# Altium footprint library Connectors Rectangular 2.54 PL.PcbLib: 14 footprints
Each footprint in its own frame and in the unit in brackets; x right, y up, seen from the top. Pads: shape width x height; smd on the part's side, far side on the other; paste and mask are expansions set on the pad; w line width, h text height; cw(c..) or ccw(c..) is an arc to the next point about the centre after c.
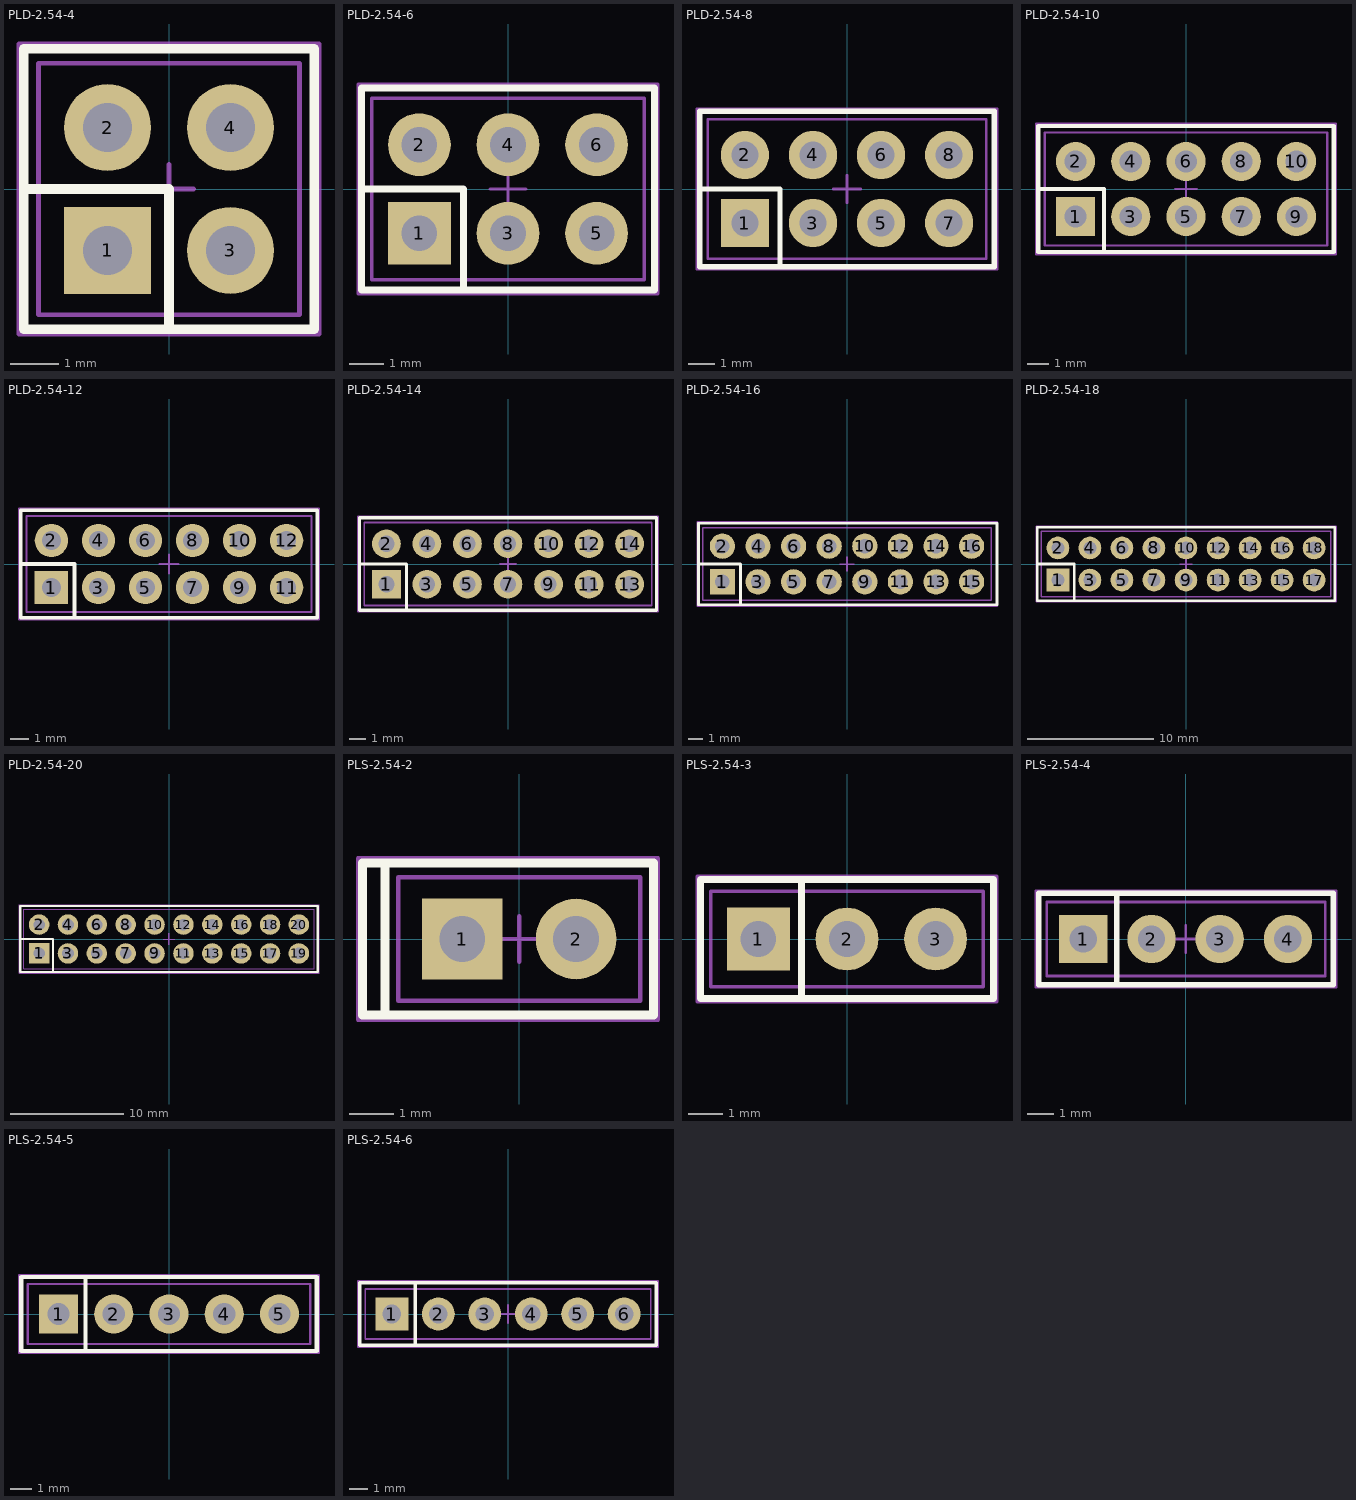
[diagram p0: the footprints below, top view; thin cyan lines are the x and y axes]

## PLD-2.54-4 [mm]
height 8.54
pads (4):
  rect 1.8x1.8 hole 1.02: 1(-1.27,-1.27)
  round 1.8 hole 1.02: 2(-1.27,1.27) 3(1.27,-1.27) 4(1.27,1.27)
Top Overlay:
  lines w0.2: -3,0 0,0 0,-2.9 ; -3,-2.9 -3,2.9 3,2.9 3,-2.9 -3,-2.9
Top Package:
  circle w0.1: c-1.27,1.27 r0.4
  circle w0.1: c-1.27,-1.27 r0.4
  circle w0.1: c1.27,1.27 r0.4
  circle w0.1: c1.27,-1.27 r0.4
  lines w0.1: -2.7,-2.6 -2.7,2.6 2.7,2.6 2.7,-2.6 -2.7,-2.6
Top Comment:
  text ".Comment" at -2.835,3.549 h2
Top Designator:
  text ".Designator" at -4.299,3.617 h2.5
Top Border:
  lines w0.1: -0.5,0 0.5,0 ; 0,-0.5 0,0.5 ; -3.1,-3 3.1,-3 3.1,3 -3.1,3 -3.1,-3 ; -0.508,0 0.508,0 -0.508,0 ; 0,-0.508 0,0.508 0,-0.508
3D body "PL-2x V1.stp": height 9.2, standoff -3.5, extent 0,-2.54 2.54,2.54
3D body "PL-2x V1.stp": height 9.2, standoff -3.5, extent -2.54,-2.54 0,2.54

## PLD-2.54-6 [mm]
height 8.54
pads (6):
  rect 1.8x1.8 hole 1.02: 1(-2.54,-1.27)
  round 1.8 hole 1.02: 2(-2.54,1.27) 3(0,-1.27) 4(0,1.27) 5(2.54,-1.27) 6(2.54,1.27)
Top Overlay:
  lines w0.2: -4.17,0 -1.27,0 -1.27,-2.9 ; -4.2,-2.9 4.2,-2.9 4.2,2.9 -4.2,2.9 -4.2,-2.9
Top Package:
  circle w0.1: c0,-1.27 r0.4
  circle w0.1: c0,1.27 r0.4
  circle w0.1: c-2.54,-1.27 r0.4
  circle w0.1: c-2.54,1.27 r0.4
  circle w0.1: c2.54,1.27 r0.4
  circle w0.1: c2.54,-1.27 r0.4
  lines w0.1: -3.9,-2.6 3.9,-2.6 3.9,2.6 -3.9,2.6 -3.9,-2.6
Top Comment:
  text ".Comment" at -3.546,3.386 h2.5
Top Designator:
  text ".Designator" at -4.299,3.617 h2.5
Top Border:
  lines w0.1: -0.5,0 0.5,0 ; 0,-0.5 0,0.5 ; -4.3,-3 -4.3,3 4.3,3 4.3,-3 -4.3,-3 ; -0.508,0 0.508,0 -0.508,0 ; 0,-0.508 0,0.508 0,-0.508
3D body "PL-2x V1.stp": height 9.2, standoff -3.5, extent -3.81,-2.54 -1.27,2.54
3D body "PL-2x V1.stp": height 9.2, standoff -3.5, extent -1.27,-2.54 1.27,2.54
3D body "PL-2x V1.stp": height 9.2, standoff -3.5, extent 1.27,-2.54 3.81,2.54

## PLD-2.54-8 [mm]
height 8.54
pads (8):
  rect 1.8x1.8 hole 1.02: 1(-3.81,-1.27)
  round 1.8 hole 1.02: 2(-3.81,1.27) 3(-1.27,-1.27) 4(-1.27,1.27) 5(1.27,-1.27) 6(1.27,1.27) 7(3.81,-1.27) 8(3.81,1.27)
Top Overlay:
  lines w0.2: -5.5,0 -2.5,0 -2.5,-2.9 ; -5.5,-2.9 5.5,-2.9 5.5,2.9 -5.5,2.9 -5.5,-2.9
Top Package:
  circle w0.1: c-1.27,1.27 r0.4
  circle w0.1: c-1.27,-1.27 r0.4
  circle w0.1: c1.27,1.27 r0.4
  circle w0.1: c1.27,-1.27 r0.4
  circle w0.1: c-3.81,1.27 r0.4
  circle w0.1: c-3.81,-1.27 r0.4
  circle w0.1: c3.81,1.27 r0.4
  circle w0.1: c3.81,-1.27 r0.4
  lines w0.1: -5.2,-2.6 5.2,-2.6 5.2,2.6 -5.2,2.6 -5.2,-2.6
Top Comment:
  text ".Comment" at -3.546,3.386 h2.5
Top Designator:
  text ".Designator" at -4.299,3.617 h2.5
Top Border:
  lines w0.1: -0.5,0 0.5,0 ; 0,-0.5 0,0.5 ; -5.6,-3 -5.6,3 5.6,3 5.6,-3 -5.6,-3 ; -0.508,0 0.508,0 -0.508,0 ; 0,-0.508 0,0.508 0,-0.508
3D body "PL-2x V1.stp": height 9.2, standoff -3.5, extent 0,-2.54 2.54,2.54
3D body "PL-2x V1.stp": height 9.2, standoff -3.5, extent 2.54,-2.54 5.08,2.54
3D body "PL-2x V1.stp": height 9.2, standoff -3.5, extent -5.08,-2.54 -2.54,2.54
3D body "PL-2x V1.stp": height 9.2, standoff -3.5, extent -2.54,-2.54 0,2.54

## PLD-2.54-10 [mm]
height 8.54
pads (10):
  rect 1.8x1.8 hole 1.02: 1(-5.08,-1.27)
  round 1.8 hole 1.02: 2(-5.08,1.27) 3(-2.54,-1.27) 4(-2.54,1.27) 5(0,-1.27) 6(0,1.27) 7(2.54,-1.27) 8(2.54,1.27) 9(5.08,-1.27) 10(5.08,1.27)
Top Overlay:
  lines w0.2: -6.8,0 -3.77,0 -3.77,-2.9 ; -6.8,-2.9 -6.8,2.9 6.8,2.9 6.8,-2.9 -6.8,-2.9
Top Package:
  circle w0.1: c-5.08,-1.27 r0.4
  circle w0.1: c-5.08,1.27 r0.4
  circle w0.1: c5.08,-1.27 r0.4
  circle w0.1: c5.08,1.27 r0.4
  circle w0.1: c2.54,-1.27 r0.4
  circle w0.1: c2.54,1.27 r0.4
  circle w0.1: c-2.54,1.27 r0.4
  circle w0.1: c-2.54,-1.27 r0.4
  circle w0.1: c0,1.27 r0.4
  circle w0.1: c0,-1.27 r0.4
  lines w0.1: -6.5,-2.6 -6.5,2.6 6.5,2.6 6.5,-2.6 -6.5,-2.6
Top Comment:
  text ".Comment" at -3.546,3.386 h2.5
Top Designator:
  text ".Designator" at -4.299,3.617 h2.5
Top Border:
  lines w0.1: -0.5,0 0.5,0 ; 0,-0.5 0,0.5 ; -6.9,-3 6.9,-3 6.9,3 -6.9,3 -6.9,-3 ; -0.508,0 0.508,0 -0.508,0 ; 0,-0.508 0,0.508 0,-0.508
3D body "PL-2x V1.stp": height 9.2, standoff -3.5, extent 3.81,-2.54 6.35,2.54
3D body "PL-2x V1.stp": height 9.2, standoff -3.5, extent -6.35,-2.54 -3.81,2.54
3D body "PL-2x V1.stp": height 9.2, standoff -3.5, extent 1.27,-2.54 3.81,2.54
3D body "PL-2x V1.stp": height 9.2, standoff -3.5, extent -1.27,-2.54 1.27,2.54
3D body "PL-2x V1.stp": height 9.2, standoff -3.5, extent -3.81,-2.54 -1.27,2.54

## PLD-2.54-12 [mm]
height 8.54
pads (12):
  rect 1.8x1.8 hole 1.02: 1(-6.35,-1.27)
  round 1.8 hole 1.02: 2(-6.35,1.27) 3(-3.81,-1.27) 4(-3.81,1.27) 5(-1.27,-1.27) 6(-1.27,1.27) 7(1.27,-1.27) 8(1.27,1.27) 9(3.81,-1.27) 10(3.81,1.27) 11(6.35,-1.27) 12(6.35,1.27)
Top Overlay:
  lines w0.2: -8,0 -5.1,0 -5.1,-2.9 ; -8,-2.9 8,-2.9 8,2.9 -8,2.9 -8,-2.9
Top Package:
  circle w0.1: c-1.27,1.27 r0.4
  circle w0.1: c-1.27,-1.27 r0.4
  circle w0.1: c1.27,1.27 r0.4
  circle w0.1: c1.27,-1.27 r0.4
  circle w0.1: c3.81,1.27 r0.4
  circle w0.1: c3.81,-1.27 r0.4
  circle w0.1: c6.35,1.27 r0.4
  circle w0.1: c6.35,-1.27 r0.4
  circle w0.1: c-6.35,1.27 r0.4
  circle w0.1: c-6.35,-1.27 r0.4
  circle w0.1: c-3.81,1.27 r0.4
  circle w0.1: c-3.81,-1.27 r0.4
  lines w0.1: -7.7,-2.6 7.7,-2.6 7.7,2.6 -7.7,2.6 -7.7,-2.6
Top Comment:
  text ".Comment" at -3.546,3.386 h2.5
Top Designator:
  text ".Designator" at -4.299,3.617 h2.5
Top Border:
  lines w0.1: -0.5,0 0.5,0 ; 0,-0.5 0,0.5 ; -8.1,-3 -8.1,3 8.1,3 8.1,-3 -8.1,-3 ; -0.508,0 0.508,0 -0.508,0 ; 0,-0.508 0,0.508 0,-0.508
3D body "PL-2x V1.stp": height 9.2, standoff -3.5, extent 0,-2.54 2.54,2.54
3D body "PL-2x V1.stp": height 9.2, standoff -3.5, extent 2.54,-2.54 5.08,2.54
3D body "PL-2x V1.stp": height 9.2, standoff -3.5, extent -5.08,-2.54 -2.54,2.54
3D body "PL-2x V1.stp": height 9.2, standoff -3.5, extent -2.54,-2.54 0,2.54
3D body "PL-2x V1.stp": height 9.2, standoff -3.5, extent -7.62,-2.54 -5.08,2.54
3D body "PL-2x V1.stp": height 9.2, standoff -3.5, extent 5.08,-2.54 7.62,2.54

## PLD-2.54-14 [mm]
height 8.54
pads (14):
  rect 1.8x1.8 hole 1.02: 1(-7.62,-1.27)
  round 1.8 hole 1.02: 2(-7.62,1.27) 3(-5.08,-1.27) 4(-5.08,1.27) 5(-2.54,-1.27) 6(-2.54,1.27) 7(0,-1.27) 8(0,1.27) 9(2.54,-1.27) 10(2.54,1.27) 11(5.08,-1.27) 12(5.08,1.27) 13(7.62,-1.27) 14(7.62,1.27)
Top Overlay:
  lines w0.2: -9.27,0 -6.37,0 -6.37,-2.9 ; -9.3,-2.9 -9.3,2.9 9.3,2.9 9.3,-2.9 -9.3,-2.9
Top Package:
  circle w0.1: c-5.08,-1.27 r0.4
  circle w0.1: c-5.08,1.27 r0.4
  circle w0.1: c-7.62,-1.27 r0.4
  circle w0.1: c-7.62,1.27 r0.4
  circle w0.1: c7.62,-1.27 r0.4
  circle w0.1: c7.62,1.27 r0.4
  circle w0.1: c5.08,-1.27 r0.4
  circle w0.1: c5.08,1.27 r0.4
  circle w0.1: c2.54,-1.27 r0.4
  circle w0.1: c2.54,1.27 r0.4
  circle w0.1: c-2.54,1.27 r0.4
  circle w0.1: c-2.54,-1.27 r0.4
  circle w0.1: c0,1.27 r0.4
  circle w0.1: c0,-1.27 r0.4
  lines w0.1: -9,-2.6 -9,2.6 9,2.6 9,-2.6 -9,-2.6
Top Comment:
  text ".Comment" at -3.546,3.386 h2.5
Top Designator:
  text ".Designator" at -4.299,3.617 h2.5
Top Border:
  lines w0.1: -0.5,0 0.5,0 ; 0,-0.5 0,0.5 ; -9.4,-3 9.4,-3 9.4,3 -9.4,3 -9.4,-3 ; -0.508,0 0.508,0 -0.508,0 ; 0,-0.508 0,0.508 0,-0.508
3D body "PL-2x V1.stp": height 9.2, standoff -3.5, extent 3.81,-2.54 6.35,2.54
3D body "PL-2x V1.stp": height 9.2, standoff -3.5, extent -6.35,-2.54 -3.81,2.54
3D body "PL-2x V1.stp": height 9.2, standoff -3.5, extent 1.27,-2.54 3.81,2.54
3D body "PL-2x V1.stp": height 9.2, standoff -3.5, extent -1.27,-2.54 1.27,2.54
3D body "PL-2x V1.stp": height 9.2, standoff -3.5, extent -3.81,-2.54 -1.27,2.54
3D body "PL-2x V1.stp": height 9.2, standoff -3.5, extent -8.89,-2.54 -6.35,2.54
3D body "PL-2x V1.stp": height 9.2, standoff -3.5, extent 6.35,-2.54 8.89,2.54

## PLD-2.54-16 [mm]
height 8.54
pads (16):
  rect 1.8x1.8 hole 1.02: 1(-8.89,-1.27)
  round 1.8 hole 1.02: 2(-8.89,1.27) 3(-6.35,-1.27) 4(-6.35,1.27) 5(-3.81,-1.27) 6(-3.81,1.27) 7(-1.27,-1.27) 8(-1.27,1.27) 9(1.27,-1.27) 10(1.27,1.27) 11(3.81,-1.27) 12(3.81,1.27) 13(6.35,-1.27) 14(6.35,1.27) 15(8.89,-1.27) 16(8.89,1.27)
Top Overlay:
  lines w0.2: -10.6,0 -7.6,0 -7.6,-2.9 ; -10.6,-2.9 -10.6,2.9 10.7,2.9 10.7,-2.9 -10.6,-2.9
Top Package:
  circle w0.1: c1.27,-1.27 r0.4
  circle w0.1: c1.27,1.27 r0.4
  circle w0.1: c-1.27,-1.27 r0.4
  circle w0.1: c-1.27,1.27 r0.4
  circle w0.1: c3.81,1.27 r0.4
  circle w0.1: c3.81,-1.27 r0.4
  circle w0.1: c6.35,1.27 r0.4
  circle w0.1: c6.35,-1.27 r0.4
  circle w0.1: c-6.35,1.27 r0.4
  circle w0.1: c-6.35,-1.27 r0.4
  circle w0.1: c-3.81,1.27 r0.4
  circle w0.1: c-3.81,-1.27 r0.4
  circle w0.1: c-8.89,1.27 r0.4
  circle w0.1: c-8.89,-1.27 r0.4
  circle w0.1: c8.89,1.27 r0.4
  circle w0.1: c8.89,-1.27 r0.4
  lines w0.1: -10.3,-2.6 -10.3,2.6 10.3,2.6 10.3,-2.6 -10.3,-2.6
Top Comment:
  text ".Comment" at -3.546,3.386 h2.5
Top Designator:
  text ".Designator" at -4.299,3.617 h2.5
Top Border:
  lines w0.1: -0.5,0 0.5,0 ; 0,-0.5 0,0.5 ; -10.7,-3 10.7,-3 10.7,3 -10.7,3 -10.7,-3 ; -0.508,0 0.508,0 -0.508,0 ; 0,-0.508 0,0.508 0,-0.508
3D body "PL-2x V1.stp": height 9.2, standoff -3.5, extent -2.54,-2.54 0,2.54
3D body "PL-2x V1.stp": height 9.2, standoff -3.5, extent -5.08,-2.54 -2.54,2.54
3D body "PL-2x V1.stp": height 9.2, standoff -3.5, extent 2.54,-2.54 5.08,2.54
3D body "PL-2x V1.stp": height 9.2, standoff -3.5, extent 0,-2.54 2.54,2.54
3D body "PL-2x V1.stp": height 9.2, standoff -3.5, extent -7.62,-2.54 -5.08,2.54
3D body "PL-2x V1.stp": height 9.2, standoff -3.5, extent -10.16,-2.54 -7.62,2.54
3D body "PL-2x V1.stp": height 9.2, standoff -3.5, extent 5.08,-2.54 7.62,2.54
3D body "PL-2x V1.stp": height 9.2, standoff -3.5, extent 7.62,-2.54 10.16,2.54

## PLD-2.54-18 [mm]
height 8.54
pads (18):
  rect 1.8x1.8 hole 1.02: 1(-10.16,-1.27)
  round 1.8 hole 1.02: 2(-10.16,1.27) 3(-7.62,-1.27) 4(-7.62,1.27) 5(-5.08,-1.27) 6(-5.08,1.27) 7(-2.54,-1.27) 8(-2.54,1.27) 9(0,-1.27) 10(0,1.27) 11(2.54,-1.27) 12(2.54,1.27) 13(5.08,-1.27) 14(5.08,1.27) 15(7.62,-1.27) 16(7.62,1.27) 17(10.16,-1.27) 18(10.16,1.27)
Top Overlay:
  lines w0.2: -11.77,0 -8.87,0 -8.87,-2.9 ; -11.8,-2.9 11.8,-2.9 11.8,2.9 -11.8,2.9 -11.8,-2.9
Top Package:
  circle w0.1: c-7.62,-1.27 r0.4
  circle w0.1: c-7.62,1.27 r0.4
  circle w0.1: c-10.16,-1.27 r0.4
  circle w0.1: c-10.16,1.27 r0.4
  circle w0.1: c-5.08,1.27 r0.4
  circle w0.1: c-5.08,-1.27 r0.4
  circle w0.1: c7.62,-1.27 r0.4
  circle w0.1: c7.62,1.27 r0.4
  circle w0.1: c5.08,-1.27 r0.4
  circle w0.1: c5.08,1.27 r0.4
  circle w0.1: c10.16,1.27 r0.4
  circle w0.1: c10.16,-1.27 r0.4
  circle w0.1: c0,-1.27 r0.4
  circle w0.1: c0,1.27 r0.4
  circle w0.1: c-2.54,-1.27 r0.4
  circle w0.1: c-2.54,1.27 r0.4
  circle w0.1: c2.54,1.27 r0.4
  circle w0.1: c2.54,-1.27 r0.4
  lines w0.1: -11.5,-2.6 11.5,-2.6 11.5,2.6 -11.5,2.6 -11.5,-2.6
Top Comment:
  text ".Comment" at -3.546,3.386 h2.5
Top Designator:
  text ".Designator" at -4.299,3.617 h2.5
Top Border:
  lines w0.1: -0.5,0 0.5,0 ; 0,-0.5 0,0.5 ; -11.9,-3 -11.9,3 11.9,3 11.9,-3 -11.9,-3 ; -0.508,0 0.508,0 -0.508,0 ; 0,-0.508 0,0.508 0,-0.508
3D body "PL-2x V1.stp": height 9.2, standoff -3.5, extent -3.81,-2.54 -1.27,2.54
3D body "PL-2x V1.stp": height 9.2, standoff -3.5, extent -1.27,-2.54 1.27,2.54
3D body "PL-2x V1.stp": height 9.2, standoff -3.5, extent 1.27,-2.54 3.81,2.54
3D body "PL-2x V1.stp": height 9.2, standoff -3.5, extent -6.35,-2.54 -3.81,2.54
3D body "PL-2x V1.stp": height 9.2, standoff -3.5, extent 3.81,-2.54 6.35,2.54
3D body "PL-2x V1.stp": height 9.2, standoff -3.5, extent 6.35,-2.54 8.89,2.54
3D body "PL-2x V1.stp": height 9.2, standoff -3.5, extent 8.89,-2.54 11.43,2.54
3D body "PL-2x V1.stp": height 9.2, standoff -3.5, extent -11.43,-2.54 -8.89,2.54
3D body "PL-2x V1.stp": height 9.2, standoff -3.5, extent -8.89,-2.54 -6.35,2.54

## PLD-2.54-20 [mm]
height 8.54
pads (20):
  rect 1.8x1.8 hole 1.02: 1(-11.43,-1.27)
  round 1.8 hole 1.02: 2(-11.43,1.27) 3(-8.89,-1.27) 4(-8.89,1.27) 5(-6.35,-1.27) 6(-6.35,1.27) 7(-3.81,-1.27) 8(-3.81,1.27) 9(-1.27,-1.27) 10(-1.27,1.27) 11(1.27,-1.27) 12(1.27,1.27) 13(3.81,-1.27) 14(3.81,1.27) 15(6.35,-1.27) 16(6.35,1.27) 17(8.89,-1.27) 18(8.89,1.27) 19(11.43,-1.27) 20(11.43,1.27)
Top Overlay:
  lines w0.2: -13.1,0 -10.2,0 -10.2,-2.9 ; -13.1,-2.9 -13.1,2.9 13.1,2.9 13.1,-2.9 -13.1,-2.9
Top Package:
  circle w0.1: c-3.81,-1.27 r0.4
  circle w0.1: c-3.81,1.27 r0.4
  circle w0.1: c3.81,-1.27 r0.4
  circle w0.1: c3.81,1.27 r0.4
  circle w0.1: c8.89,-1.27 r0.4
  circle w0.1: c8.89,1.27 r0.4
  circle w0.1: c6.35,-1.27 r0.4
  circle w0.1: c6.35,1.27 r0.4
  circle w0.1: c11.43,1.27 r0.4
  circle w0.1: c11.43,-1.27 r0.4
  circle w0.1: c-8.89,-1.27 r0.4
  circle w0.1: c-8.89,1.27 r0.4
  circle w0.1: c-11.43,-1.27 r0.4
  circle w0.1: c-11.43,1.27 r0.4
  circle w0.1: c-6.35,1.27 r0.4
  circle w0.1: c-6.35,-1.27 r0.4
  circle w0.1: c1.27,-1.27 r0.4
  circle w0.1: c1.27,1.27 r0.4
  circle w0.1: c-1.27,-1.27 r0.4
  circle w0.1: c-1.27,1.27 r0.4
  lines w0.1: -12.8,-2.6 -12.8,2.6 12.8,2.6 12.8,-2.6 -12.8,-2.6
Top Comment:
  text ".Comment" at -3.546,3.386 h2.5
Top Designator:
  text ".Designator" at -4.299,3.617 h2.5
Top Border:
  lines w0.1: -0.5,0 0.5,0 ; 0,-0.5 0,0.5 ; -13.2,-3 13.2,-3 13.2,3 -13.2,3 -13.2,-3 ; -0.508,0 0.508,0 -0.508,0 ; 0,-0.508 0,0.508 0,-0.508
3D body "PL-2x V1.stp": height 9.2, standoff -3.5, extent 7.62,-2.54 10.16,2.54
3D body "PL-2x V1.stp": height 9.2, standoff -3.5, extent 5.08,-2.54 7.62,2.54
3D body "PL-2x V1.stp": height 9.2, standoff -3.5, extent 10.16,-2.54 12.7,2.54
3D body "PL-2x V1.stp": height 9.2, standoff -3.5, extent -10.16,-2.54 -7.62,2.54
3D body "PL-2x V1.stp": height 9.2, standoff -3.5, extent -12.7,-2.54 -10.16,2.54
3D body "PL-2x V1.stp": height 9.2, standoff -3.5, extent -7.62,-2.54 -5.08,2.54
3D body "PL-2x V1.stp": height 9.2, standoff -3.5, extent -2.54,-2.54 0,2.54
3D body "PL-2x V1.stp": height 9.2, standoff -3.5, extent -5.08,-2.54 -2.54,2.54
3D body "PL-2x V1.stp": height 9.2, standoff -3.5, extent 2.54,-2.54 5.08,2.54
3D body "PL-2x V1.stp": height 9.2, standoff -3.5, extent 0,-2.54 2.54,2.54

## PLS-2.54-2 [mm]
height 8.54
pads (2):
  rect 1.8x1.8 hole 1.02: 1(-1.27,0)
  round 1.8 hole 1.02: 2(1.27,0)
Top Overlay:
  lines w0.2: -3,-1.7 -3,1.7 ; -3.5,-1.7 -3.5,1.7 3,1.7 3,-1.7 -3.5,-1.7
Top Package:
  circle w0.1: c1.27,0 r0.4
  circle w0.1: c-1.27,0 r0.4
  lines w0.1: -2.7,-1.375 -2.7,1.375 2.7,1.375 2.7,-1.375 -2.7,-1.375
Top Comment:
  text ".Comment" at -2.835,2.349 h2
Top Designator:
  text ".Designator" at -4.299,2.417 h2.5
Top Border:
  lines w0.1: -0.5,0 0.5,0 ; 0,-0.5 0,0.5 ; -3.6,-1.8 3.1,-1.8 3.1,1.8 -3.6,1.8 -3.6,-1.8 ; -0.508,0 0.508,0 -0.508,0 ; 0,-0.508 0,0.508 0,-0.508
3D body "PL-1x V1.stp": height 9.2, standoff -3.5, extent 0,-1.27 2.54,1.27
3D body "PL-1x V1.stp": height 9.2, standoff -3.5, extent -2.54,-1.27 0,1.27

## PLS-2.54-3 [mm]
height 8.54
pads (3):
  rect 1.8x1.8 hole 1.02: 1(-2.54,0)
  round 1.8 hole 1.02: 2(0,0) 3(2.54,0)
Top Overlay:
  lines w0.2: -1.3,-1.7 -1.3,1.7 ; -4.2,-1.7 -4.2,1.7 4.2,1.7 4.2,-1.7 -4.2,-1.7
Top Package:
  circle w0.1: c0,0 r0.4
  circle w0.1: c-2.54,0 r0.4
  circle w0.1: c2.54,0 r0.4
  lines w0.1: -3.9,-1.375 -3.9,1.375 3.9,1.375 3.9,-1.375 -3.9,-1.375
Top Comment:
  text ".Comment" at -2.835,2.349 h2
Top Designator:
  text ".Designator" at -4.299,2.417 h2.5
Top Border:
  lines w0.1: -0.5,0 0.5,0 ; 0,-0.5 0,0.5 ; -4.3,-1.8 4.3,-1.8 4.3,1.8 -4.3,1.8 -4.3,-1.8 ; -0.508,0 0.508,0 -0.508,0 ; 0,-0.508 0,0.508 0,-0.508
3D body "PL-1x V1.stp": height 9.2, standoff -3.5, extent 1.27,-1.27 3.81,1.27
3D body "PL-1x V1.stp": height 9.2, standoff -3.5, extent -1.27,-1.27 1.27,1.27
3D body "PL-1x V1.stp": height 9.2, standoff -3.5, extent -3.81,-1.27 -1.27,1.27

## PLS-2.54-4 [mm]
height 8.54
pads (4):
  rect 1.8x1.8 hole 1.02: 1(-3.81,0)
  round 1.8 hole 1.02: 2(-1.27,0) 3(1.27,0) 4(3.81,0)
Top Overlay:
  lines w0.2: -2.57,-1.7 -2.57,1.7 ; -5.47,-1.7 5.5,-1.7 5.5,1.7 -5.47,1.7 -5.47,-1.7
Top Package:
  circle w0.1: c3.81,0 r0.4
  circle w0.1: c1.27,0 r0.4
  circle w0.1: c-3.81,0 r0.4
  circle w0.1: c-1.27,0 r0.4
  lines w0.1: -5.17,-1.375 5.2,-1.375 5.2,1.375 -5.17,1.375 -5.17,-1.375
Top Comment:
  text ".Comment" at -3.546,2.186 h2.5
Top Designator:
  text ".Designator" at -4.299,2.417 h2.5
Top Border:
  lines w0.1: -0.5,0 0.5,0 ; 0,-0.5 0,0.5 ; -5.57,-1.8 -5.57,1.8 5.6,1.8 5.6,-1.8 -5.57,-1.8 ; -0.508,0 0.508,0 -0.508,0 ; 0,-0.508 0,0.508 0,-0.508
3D body "PL-1x V1.stp": height 9.2, standoff -3.5, extent 2.54,-1.27 5.08,1.27
3D body "PL-1x V1.stp": height 9.2, standoff -3.5, extent 0,-1.27 2.54,1.27
3D body "PL-1x V1.stp": height 9.2, standoff -3.5, extent -2.54,-1.27 0,1.27
3D body "PL-1x V1.stp": height 9.2, standoff -3.5, extent -5.08,-1.27 -2.54,1.27

## PLS-2.54-5 [mm]
height 8.54
pads (5):
  rect 1.8x1.8 hole 1.02: 1(-5.08,0)
  round 1.8 hole 1.02: 2(-2.54,0) 3(0,0) 4(2.54,0) 5(5.08,0)
Top Overlay:
  lines w0.2: -3.84,-1.7 -3.84,1.7 ; -6.8,-1.7 6.8,-1.7 6.8,1.7 -6.8,1.7 -6.8,-1.7
Top Package:
  circle w0.1: c2.54,0 r0.4
  circle w0.1: c-2.54,0 r0.4
  circle w0.1: c0,0 r0.4
  circle w0.1: c-5.08,0 r0.4
  circle w0.1: c5.08,0 r0.4
  lines w0.1: -6.5,-1.375 6.5,-1.375 6.5,1.375 -6.5,1.375 -6.5,-1.375
Top Comment:
  text ".Comment" at -3.546,2.186 h2.5
Top Designator:
  text ".Designator" at -4.299,2.417 h2.5
Top Border:
  lines w0.1: -0.5,0 0.5,0 ; 0,-0.5 0,0.5 ; -6.9,-1.8 -6.9,1.8 6.9,1.8 6.9,-1.8 -6.9,-1.8 ; -0.508,0 0.508,0 -0.508,0 ; 0,-0.508 0,0.508 0,-0.508
3D body "PL-1x V1.stp": height 9.2, standoff -3.5, extent 3.81,-1.27 6.35,1.27
3D body "PL-1x V1.stp": height 9.2, standoff -3.5, extent -6.35,-1.27 -3.81,1.27
3D body "PL-1x V1.stp": height 9.2, standoff -3.5, extent -3.81,-1.27 -1.27,1.27
3D body "PL-1x V1.stp": height 9.2, standoff -3.5, extent -1.27,-1.27 1.27,1.27
3D body "PL-1x V1.stp": height 9.2, standoff -3.5, extent 1.27,-1.27 3.81,1.27

## PLS-2.54-6 [mm]
height 8.54
pads (6):
  rect 1.8x1.8 hole 1.02: 1(-6.35,0)
  round 1.8 hole 1.02: 2(-3.81,0) 3(-1.27,0) 4(1.27,0) 5(3.81,0) 6(6.35,0)
Top Overlay:
  lines w0.2: -5.07,-1.7 -5.07,1.7 ; -8.1,-1.7 8.1,-1.7 8.1,1.7 -8.1,1.7 -8.1,-1.7
Top Package:
  circle w0.1: c3.81,0 r0.4
  circle w0.1: c1.27,0 r0.4
  circle w0.1: c-3.81,0 r0.4
  circle w0.1: c-1.27,0 r0.4
  circle w0.1: c-6.35,0 r0.4
  circle w0.1: c6.35,0 r0.4
  lines w0.1: -7.8,-1.375 7.8,-1.375 7.8,1.375 -7.8,1.375 -7.8,-1.375
Top Comment:
  text ".Comment" at -3.546,2.186 h2.5
Top Designator:
  text ".Designator" at -4.299,2.417 h2.5
Top Border:
  lines w0.1: -0.5,0 0.5,0 ; 0,-0.5 0,0.5 ; -8.2,-1.8 -8.2,1.8 8.2,1.8 8.2,-1.8 -8.2,-1.8 ; -0.508,0 0.508,0 -0.508,0 ; 0,-0.508 0,0.508 0,-0.508
3D body "PL-1x V1.stp": height 9.2, standoff -3.5, extent 2.54,-1.27 5.08,1.27
3D body "PL-1x V1.stp": height 9.2, standoff -3.5, extent 0,-1.27 2.54,1.27
3D body "PL-1x V1.stp": height 9.2, standoff -3.5, extent -2.54,-1.27 0,1.27
3D body "PL-1x V1.stp": height 9.2, standoff -3.5, extent -5.08,-1.27 -2.54,1.27
3D body "PL-1x V1.stp": height 9.2, standoff -3.5, extent -7.62,-1.27 -5.08,1.27
3D body "PL-1x V1.stp": height 9.2, standoff -3.5, extent 5.08,-1.27 7.62,1.27